# Altium integrated library TI Power Management Supervisor and Reset IC.IntLib: 819 symbols (part 15 of 30)
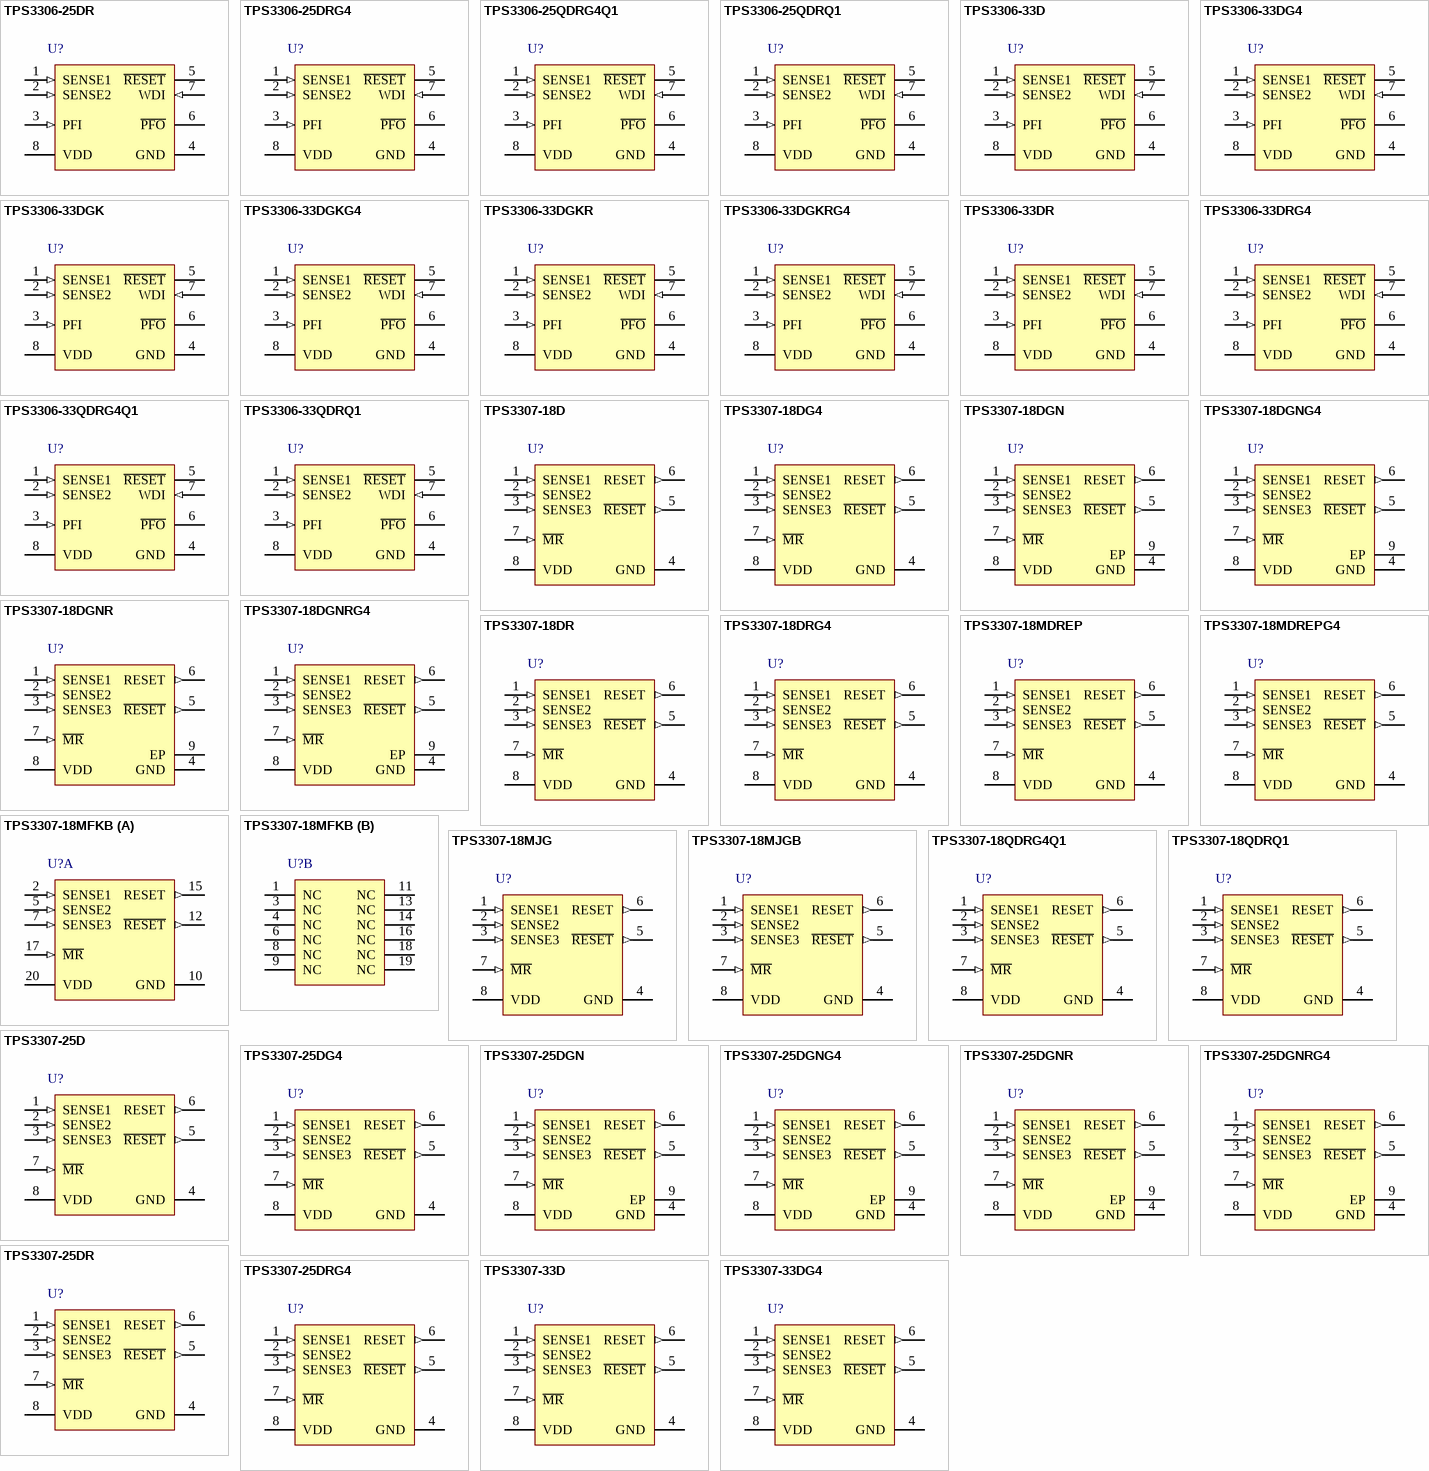
[diagram p35: symbols TPS3306-25DR to TPS3307-33DG4]

## TPS3306-33DGKR
designator U?
Dual-Processor Supervisory Circuit with Power-Fail, 2 Supply Monitored, -40 to 85 degC, 8-pin VSSOP (DGK), Green (RoHS & no Sb/Br); Manufacturer: Texas Instruments; PartNumber: TPS3306-33DGKR; # of supplies monitored: 2; Iq(Typ)(uA): 15; Output Driver Type / Reset Output: Active-low, Open-drain; Rating: Catalog; Reset Threshold Accuracy(%): 2.7; SubFamily: Supervisor and Reset IC; Threshold Voltage 1 (typ)(Typ)(V): 4.55; Threshold Voltage 2 (typ)(Typ)(V): 2.93; Time Delay(ms): 100; VCC(Max)(V): 6; Watchdog Timer WDI(sec): 0.8; DatasheetVersion: SLVS290C; PackageVersion: revE, May-2006; PackageReference: DGK8; PackageDescription: 8-Pin Thin Small Outline Package 3 x 3 mm Body ,0.65 mm Pitch; Supplier 1: Digi-Key; Supplier Part Number 1: TPS3306-33DGKR-ND; Supplier 2: Newark; Supplier Part Number 2: 77C0321; Supplier 3: Mouser; Supplier Part Number 3: 595-TPS3306-33DGKR; VCC(Min)(V): 2.7; Mounting Technology: Surface Mount; Code_JEDEC: MO-187-AA; ComponentLink1Description: Datasheet; ComponentLink1URL: http://www.ti.com/general/docs/lit/getliterature.tsp?genericPartNumber=TPS3306-33&fileType=pdf
footprint DGK8_N (TSOP, 8-Leads, Body 3x3mm, Pitch 0.65mm, IPC Medium Density)
footprint DGK8_L (TSOP, 8-Leads, Body 3x3mm, Pitch 0.65mm, IPC High Density)
footprint DGK8_M (TSOP, 8-Leads, Body 3x3mm, Pitch 0.65mm, IPC Low Density)
pins: 1 SENSE1 (in) "Sense voltage input 1", 2 SENSE2 (in) "Sense voltage input 2", 3 PFI (in) "Power-fail comparator input", 4 GND (power) "Ground", 5 ~{RESET} (oc) "Active-low reset output, open-drain", 6 ~{PFO} (oc) "Power-fail comparator output, open-drain", 7 WDI (in) "Watchdog timer input", 8 VDD (power) "Supply voltage"

## TPS3306-33DGKRG4
designator U?
Dual-Processor Supervisory Circuit with Power-Fail, 2 Supply Monitored, -40 to 85 degC, 8-pin VSSOP (DGK), Green (RoHS & no Sb/Br); Manufacturer: Texas Instruments; PartNumber: TPS3306-33DGKRG4; # of supplies monitored: 2; Iq(Typ)(uA): 15; Output Driver Type / Reset Output: Active-low, Open-drain; Rating: Catalog; Reset Threshold Accuracy(%): 2.7; SubFamily: Supervisor and Reset IC; Threshold Voltage 1 (typ)(Typ)(V): 4.55; Threshold Voltage 2 (typ)(Typ)(V): 2.93; Time Delay(ms): 100; VCC(Max)(V): 6; Watchdog Timer WDI(sec): 0.8; DatasheetVersion: SLVS290C; PackageVersion: revE, May-2006; PackageReference: DGK8; PackageDescription: 8-Pin Thin Small Outline Package 3 x 3 mm Body ,0.65 mm Pitch; Supplier 1: Digi-Key; Supplier Part Number 1: TPS3306-33DGKRG4-ND; Supplier 2: Newark; Supplier Part Number 2: 54K1626; Supplier 3: Mouser; Supplier Part Number 3: 595-TPS3306-33DGKRG4; VCC(Min)(V): 2.7; Mounting Technology: Surface Mount; Code_JEDEC: MO-187-AA; ComponentLink1Description: Datasheet; ComponentLink1URL: http://www.ti.com/general/docs/lit/getliterature.tsp?genericPartNumber=TPS3306-33&fileType=pdf
footprint DGK8_N (TSOP, 8-Leads, Body 3x3mm, Pitch 0.65mm, IPC Medium Density)
footprint DGK8_L (TSOP, 8-Leads, Body 3x3mm, Pitch 0.65mm, IPC High Density)
footprint DGK8_M (TSOP, 8-Leads, Body 3x3mm, Pitch 0.65mm, IPC Low Density)
pins: 1 SENSE1 (in) "Sense voltage input 1", 2 SENSE2 (in) "Sense voltage input 2", 3 PFI (in) "Power-fail comparator input", 4 GND (power) "Ground", 5 ~{RESET} (oc) "Active-low reset output, open-drain", 6 ~{PFO} (oc) "Power-fail comparator output, open-drain", 7 WDI (in) "Watchdog timer input", 8 VDD (power) "Supply voltage"

## TPS3306-33DR
designator U?
Dual-Processor Supervisory Circuit with Power-Fail, 2 Supply Monitored, -40 to 85 degC, 8-pin SOIC (D), Green (RoHS & no Sb/Br); Manufacturer: Texas Instruments; PartNumber: TPS3306-33DR; # of supplies monitored: 2; Iq(Typ)(uA): 15; Output Driver Type / Reset Output: Active-low, Open-drain; Rating: Catalog; Reset Threshold Accuracy(%): 2.7; SubFamily: Supervisor and Reset IC; Threshold Voltage 1 (typ)(Typ)(V): 4.55; Threshold Voltage 2 (typ)(Typ)(V): 2.93; Time Delay(ms): 100; VCC(Max)(V): 6; Watchdog Timer WDI(sec): 0.8; DatasheetVersion: SLVS290C; PackageVersion: revM, Jun-2011; PackageReference: D8; PackageDescription: 8-Pin Plastic Small Outline Integrated Circuit, 4.9 x 3.9 mm, Pitch 1.27 mm Pitch; Supplier 1: Digi-Key; Supplier Part Number 1: TPS3306-33DR-ND; Supplier 2: Newark; Supplier Part Number 2: 77C0322; Supplier 3: Mouser; Supplier Part Number 3: 595-TPS3306-33DR; VCC(Min)(V): 2.7; Mounting Technology: Surface Mount; Code_JEDEC: MS-012AA; ComponentLink1Description: Datasheet; ComponentLink1URL: http://www.ti.com/general/docs/lit/getliterature.tsp?genericPartNumber=TPS3306-33&fileType=pdf
footprint D8_N (SOIC, 8-Leads, Body 4.9x3.9mm, Pitch 1.27mm, IPC Medium Density)
footprint D8_L (SOIC, 8-Leads, Body 4.9x3.9mm, Pitch 1.27mm, IPC High Density)
footprint D8_M (SOIC, 8-Leads, Body 4.9x3.9mm, Pitch 1.27mm, IPC Low Density)
pins: 1 SENSE1 (in) "Sense voltage input 1", 2 SENSE2 (in) "Sense voltage input 2", 3 PFI (in) "Power-fail comparator input", 4 GND (power) "Ground", 5 ~{RESET} (oc) "Active-low reset output, open-drain", 6 ~{PFO} (oc) "Power-fail comparator output, open-drain", 7 WDI (in) "Watchdog timer input", 8 VDD (power) "Supply voltage"

## TPS3306-33DRG4
designator U?
Dual-Processor Supervisory Circuit with Power-Fail, 2 Supply Monitored, -40 to 85 degC, 8-pin SOIC (D), Green (RoHS & no Sb/Br); Manufacturer: Texas Instruments; PartNumber: TPS3306-33DRG4; # of supplies monitored: 2; Iq(Typ)(uA): 15; Output Driver Type / Reset Output: Active-low, Open-drain; Rating: Catalog; Reset Threshold Accuracy(%): 2.7; SubFamily: Supervisor and Reset IC; Threshold Voltage 1 (typ)(Typ)(V): 4.55; Threshold Voltage 2 (typ)(Typ)(V): 2.93; Time Delay(ms): 100; VCC(Max)(V): 6; Watchdog Timer WDI(sec): 0.8; DatasheetVersion: SLVS290C; PackageVersion: revM, Jun-2011; PackageReference: D8; PackageDescription: 8-Pin Plastic Small Outline Integrated Circuit, 4.9 x 3.9 mm, Pitch 1.27 mm Pitch; Supplier 1: Digi-Key; Supplier Part Number 1: TPS3306-33DRG4-ND; Supplier 2: Newark; Supplier Part Number 2: 33K7604; Supplier 3: Mouser; Supplier Part Number 3: 595-TPS3306-33DRG4; VCC(Min)(V): 2.7; Mounting Technology: Surface Mount; Code_JEDEC: MS-012AA; ComponentLink1Description: Datasheet; ComponentLink1URL: http://www.ti.com/general/docs/lit/getliterature.tsp?genericPartNumber=TPS3306-33&fileType=pdf
footprint D8_N (SOIC, 8-Leads, Body 4.9x3.9mm, Pitch 1.27mm, IPC Medium Density)
footprint D8_L (SOIC, 8-Leads, Body 4.9x3.9mm, Pitch 1.27mm, IPC High Density)
footprint D8_M (SOIC, 8-Leads, Body 4.9x3.9mm, Pitch 1.27mm, IPC Low Density)
pins: 1 SENSE1 (in) "Sense voltage input 1", 2 SENSE2 (in) "Sense voltage input 2", 3 PFI (in) "Power-fail comparator input", 4 GND (power) "Ground", 5 ~{RESET} (oc) "Active-low reset output, open-drain", 6 ~{PFO} (oc) "Power-fail comparator output, open-drain", 7 WDI (in) "Watchdog timer input", 8 VDD (power) "Supply voltage"

## TPS3306-33QDRG4Q1
designator U?
Automotive Catalog Dual Processor Supervisory Circuit with Power-Fail, 2 Supply Monitored, -40 to 125 degC, 8-pin SOIC (D), Green (RoHS & no Sb/Br); Manufacturer: Texas Instruments; PartNumber: TPS3306-33QDRG4Q1; # of supplies monitored: 2; Iq(Typ)(uA): 15; Output Driver Type / Reset Output: Active-low, Open-drain; Reset Threshold Accuracy(%): 2.7; SubFamily: Supervisor and Reset IC; Threshold Voltage 1 (typ)(Typ)(V): 4.55; Threshold Voltage 2 (typ)(Typ)(V): 2.93; Time Delay(ms): 100; VCC(Max)(V): 6; Watchdog Timer WDI(sec): 0.8; DatasheetVersion: SGLS241B; PackageVersion: revM, Jun-2011; PackageReference: D8; PackageDescription: 8-Pin Plastic Small Outline Integrated Circuit, 4.9 x 3.9 mm, Pitch 1.27 mm Pitch; Supplier 1: Digi-Key; Supplier Part Number 1: 296-24181-2-ND; Supplier 2: Digi-Key; Supplier Part Number 2: 296-24181-1-ND; Supplier 3: Digi-Key; Supplier Part Number 3: 296-24181-6-ND; Supplier 4: Mouser; Supplier Part Number 4: 595-TPS330633QDRG4Q1; Rating: Automotive; VCC(Min)(V): 2.7; Mounting Technology: Surface Mount; Code_JEDEC: MS-012AA; ComponentLink1Description: Datasheet; ComponentLink1URL: http://www.ti.com/general/docs/lit/getliterature.tsp?genericPartNumber=TPS3306-33-Q1&fileType=pdf
footprint D8_N (SOIC, 8-Leads, Body 4.9x3.9mm, Pitch 1.27mm, IPC Medium Density)
footprint D8_L (SOIC, 8-Leads, Body 4.9x3.9mm, Pitch 1.27mm, IPC High Density)
footprint D8_M (SOIC, 8-Leads, Body 4.9x3.9mm, Pitch 1.27mm, IPC Low Density)
pins: 1 SENSE1 (in) "Sense voltage 1", 2 SENSE2 (in) "Sense voltage 2", 3 PFI (in) "Power-fail comparator input", 4 GND (power) "Ground", 5 ~{RESET} (oc) "Active-low reset output, open drain", 6 ~{PFO} (oc) "Power-fail comparator output, open drain", 7 WDI (in) "Watchdog timer input", 8 VDD (power) "Supply voltage"

## TPS3306-33QDRQ1
designator U?
Automotive Catalog Dual Processor Supervisory Circuit with Power-Fail, 2 Supply Monitored, -40 to 125 degC, 8-pin SOIC (D), Green (RoHS & no Sb/Br); Manufacturer: Texas Instruments; PartNumber: TPS3306-33QDRQ1; # of supplies monitored: 2; Iq(Typ)(uA): 15; Output Driver Type / Reset Output: Active-low, Open-drain; Reset Threshold Accuracy(%): 2.7; SubFamily: Supervisor and Reset IC; Threshold Voltage 1 (typ)(Typ)(V): 4.55; Threshold Voltage 2 (typ)(Typ)(V): 2.93; Time Delay(ms): 100; VCC(Max)(V): 6; Watchdog Timer WDI(sec): 0.8; DatasheetVersion: SGLS241B; PackageVersion: revM, Jun-2011; PackageReference: D8; PackageDescription: 8-Pin Plastic Small Outline Integrated Circuit, 4.9 x 3.9 mm, Pitch 1.27 mm Pitch; Supplier 1: Digi-Key; Supplier Part Number 1: 296-18948-2-ND; Supplier 2: Digi-Key; Supplier Part Number 2: 296-18948-1-ND; Supplier 3: Newark; Supplier Part Number 3: 10J9758; Supplier 4: Mouser; Supplier Part Number 4: 595-TPS3306-33QDRQ1; Rating: Automotive; VCC(Min)(V): 2.7; Mounting Technology: Surface Mount; Code_JEDEC: MS-012AA; ComponentLink1Description: Datasheet; ComponentLink1URL: http://www.ti.com/general/docs/lit/getliterature.tsp?genericPartNumber=TPS3306-33-Q1&fileType=pdf
footprint D8_N (SOIC, 8-Leads, Body 4.9x3.9mm, Pitch 1.27mm, IPC Medium Density)
footprint D8_L (SOIC, 8-Leads, Body 4.9x3.9mm, Pitch 1.27mm, IPC High Density)
footprint D8_M (SOIC, 8-Leads, Body 4.9x3.9mm, Pitch 1.27mm, IPC Low Density)
pins: 1 SENSE1 (in) "Sense voltage 1", 2 SENSE2 (in) "Sense voltage 2", 3 PFI (in) "Power-fail comparator input", 4 GND (power) "Ground", 5 ~{RESET} (oc) "Active-low reset output, open drain", 6 ~{PFO} (oc) "Power-fail comparator output, open drain", 7 WDI (in) "Watchdog timer input", 8 VDD (power) "Supply voltage"

## TPS3307-18D
designator U?
Triple Processor Supervisory Circuit, 3 Supply Monitored, -40 to 85 degC, 8-pin SOIC (D), Green (RoHS & no Sb/Br); Manufacturer: Texas Instruments; PartNumber: TPS3307-18D; # of supplies monitored: 3; Iq(Typ)(uA): 15; Output Driver Type / Reset Output: Active-low, Push-pull; Rating: Catalog; Reset Threshold Accuracy(%): 2.7; SubFamily: Supervisor and Reset IC; Threshold Voltage 1 (typ)(Typ)(V): 2.93; Threshold Voltage 2 (typ)(Typ)(V): 1.68; Threshold Voltage 3 (typ)(Typ)(V): Adjustable; Time Delay(ms): 200; VCC(Max)(V): 6; VCC(Min)(V): 2; DatasheetVersion: SLVS199C; PackageVersion: revM, Jun-2011; PackageReference: D8; PackageDescription: 8-Pin Plastic Small Outline Integrated Circuit, 4.9 x 3.9 mm, Pitch 1.27 mm Pitch; Supplier 1: Digi-Key; Supplier Part Number 1: 296-2620-5-ND; Supplier 2: Farnell; Supplier Part Number 2: 5012132; Supplier 3: Newark; Supplier Part Number 3: 35K5015; Supplier 4: Mouser; Supplier Part Number 4: 595-TPS3307-18D; Mounting Technology: Surface Mount; Code_JEDEC: MS-012AA; ComponentLink1Description: Datasheet; ComponentLink1URL: http://www.ti.com/general/docs/lit/getliterature.tsp?genericPartNumber=TPS3307-18&fileType=pdf
footprint D8_N (SOIC, 8-Leads, Body 4.9x3.9mm, Pitch 1.27mm, IPC Medium Density)
footprint D8_L (SOIC, 8-Leads, Body 4.9x3.9mm, Pitch 1.27mm, IPC High Density)
footprint D8_M (SOIC, 8-Leads, Body 4.9x3.9mm, Pitch 1.27mm, IPC Low Density)
pins: 1 SENSE1 (in) "Sense voltage input 1", 2 SENSE2 (in) "Sense voltage input 2", 3 SENSE3 (in) "Sense voltage input 3", 4 GND (power) "Ground", 5 ~{RESET} (out) "Active-low reset output", 6 RESET (out) "Active-high reset output", 7 ~{MR} (in) "Manual reset", 8 VDD (power) "Supply voltage"

## TPS3307-18DG4
designator U?
Triple Processor Supervisory Circuit, 3 Supply Monitored, -40 to 85 degC, 8-pin SOIC (D), Green (RoHS & no Sb/Br); Manufacturer: Texas Instruments; PartNumber: TPS3307-18DG4; # of supplies monitored: 3; Iq(Typ)(uA): 15; Output Driver Type / Reset Output: Active-low, Push-pull; Rating: Catalog; Reset Threshold Accuracy(%): 2.7; SubFamily: Supervisor and Reset IC; Threshold Voltage 1 (typ)(Typ)(V): 2.93; Threshold Voltage 2 (typ)(Typ)(V): 1.68; Threshold Voltage 3 (typ)(Typ)(V): Adjustable; Time Delay(ms): 200; VCC(Max)(V): 6; VCC(Min)(V): 2; DatasheetVersion: SLVS199C; PackageVersion: revM, Jun-2011; PackageReference: D8; PackageDescription: 8-Pin Plastic Small Outline Integrated Circuit, 4.9 x 3.9 mm, Pitch 1.27 mm Pitch; Supplier 1: Digi-Key; Supplier Part Number 1: TPS3307-18DG4-ND; Supplier 2: Farnell; Supplier Part Number 2: 1135961; Supplier 3: Newark; Supplier Part Number 3: 93K0886; Supplier 4: Newark; Supplier Part Number 4: 61K1887; Supplier 5: Mouser; Supplier Part Number 5: 595-TPS3307-18DG4; Mounting Technology: Surface Mount; Code_JEDEC: MS-012AA; ComponentLink1Description: Datasheet; ComponentLink1URL: http://www.ti.com/general/docs/lit/getliterature.tsp?genericPartNumber=TPS3307-18&fileType=pdf
footprint D8_N (SOIC, 8-Leads, Body 4.9x3.9mm, Pitch 1.27mm, IPC Medium Density)
footprint D8_L (SOIC, 8-Leads, Body 4.9x3.9mm, Pitch 1.27mm, IPC High Density)
footprint D8_M (SOIC, 8-Leads, Body 4.9x3.9mm, Pitch 1.27mm, IPC Low Density)
pins: 1 SENSE1 (in) "Sense voltage input 1", 2 SENSE2 (in) "Sense voltage input 2", 3 SENSE3 (in) "Sense voltage input 3", 4 GND (power) "Ground", 5 ~{RESET} (out) "Active-low reset output", 6 RESET (out) "Active-high reset output", 7 ~{MR} (in) "Manual reset", 8 VDD (power) "Supply voltage"

## TPS3307-18DGN
designator U?
Triple Processor Supervisory Circuit, 3 Supply Monitored, -40 to 85 degC, 8-pin MSOP-PowerPAD (DGN), Green (RoHS & no Sb/Br); Manufacturer: Texas Instruments; PartNumber: TPS3307-18DGN; # of supplies monitored: 3; Iq(Typ)(uA): 15; Output Driver Type / Reset Output: Active-low, Push-pull; Rating: Catalog; Reset Threshold Accuracy(%): 2.7; SubFamily: Supervisor and Reset IC; Threshold Voltage 1 (typ)(Typ)(V): 2.93; Threshold Voltage 2 (typ)(Typ)(V): 1.68; Threshold Voltage 3 (typ)(Typ)(V): Adjustable; Time Delay(ms): 200; VCC(Max)(V): 6; VCC(Min)(V): 2; DatasheetVersion: SLVS199C; PackageVersion: revF, May-2011; PackageReference: DGN8-1760X1425TP; PackageDescription: 8-Pin PowerPAD Plastic Small Outline Package 3 x 3 mm Body ,0.65 mm Pitch, Exposed Pad; Supplier 1: Digi-Key; Supplier Part Number 1: 296-34602-5-ND; Supplier 2: Farnell; Supplier Part Number 2: 1100959; Supplier 3: Newark; Supplier Part Number 3: 74K3975; Supplier 4: Mouser; Supplier Part Number 4: 595-TPS3307-18DGN; Mounting Technology: Surface Mount; Code_JEDEC: MO-187-AA-T; ComponentLink1Description: Datasheet; ComponentLink1URL: http://www.ti.com/general/docs/lit/getliterature.tsp?genericPartNumber=TPS3307-18&fileType=pdf
footprint DGN8-1760X1425TP_N (TSOP, 8-Leads, Body 3x3mm, Pitch 0.65mm, Thermal Pad 1.89x1.57mm, IPC Medium Density)
footprint DGN8-1760X1425TP_L (TSOP, 8-Leads, Body 3x3mm, Pitch 0.65mm, Thermal Pad 1.89x1.57mm, IPC High Density)
footprint DGN8-1760X1425TP_M (TSOP, 8-Leads, Body 3x3mm, Pitch 0.65mm, Thermal Pad 1.89x1.57mm, IPC Low Density)
pins: 1 SENSE1 (in) "Sense voltage input 1", 2 SENSE2 (in) "Sense voltage input 2", 3 SENSE3 (in) "Sense voltage input 3", 4 GND (power) "Ground", 5 ~{RESET} (out) "Active-low reset output", 6 RESET (out) "Active-high reset output", 7 ~{MR} (in) "Manual reset", 8 VDD (power) "Supply voltage", 9 EP "Exposed Thermal Pad"

## TPS3307-18DGNG4
designator U?
Triple Processor Supervisory Circuit, 3 Supply Monitored, -40 to 85 degC, 8-pin MSOP-PowerPAD (DGN), Green (RoHS & no Sb/Br); Manufacturer: Texas Instruments; PartNumber: TPS3307-18DGNG4; # of supplies monitored: 3; Iq(Typ)(uA): 15; Output Driver Type / Reset Output: Active-low, Push-pull; Rating: Catalog; Reset Threshold Accuracy(%): 2.7; SubFamily: Supervisor and Reset IC; Threshold Voltage 1 (typ)(Typ)(V): 2.93; Threshold Voltage 2 (typ)(Typ)(V): 1.68; Threshold Voltage 3 (typ)(Typ)(V): Adjustable; Time Delay(ms): 200; VCC(Max)(V): 6; VCC(Min)(V): 2; DatasheetVersion: SLVS199C; PackageVersion: revF, May-2011; PackageReference: DGN8-1760X1425TP; PackageDescription: 8-Pin PowerPAD Plastic Small Outline Package 3 x 3 mm Body ,0.65 mm Pitch, Exposed Pad; Supplier 1: Digi-Key; Supplier Part Number 1: TPS3307-18DGNG4-ND; Supplier 2: Newark; Supplier Part Number 2: 58K6916; Supplier 3: Mouser; Supplier Part Number 3: 595-TPS3307-18DGNG4; Mounting Technology: Surface Mount; Code_JEDEC: MO-187-AA-T; ComponentLink1Description: Datasheet; ComponentLink1URL: http://www.ti.com/general/docs/lit/getliterature.tsp?genericPartNumber=TPS3307-18&fileType=pdf
footprint DGN8-1760X1425TP_N (TSOP, 8-Leads, Body 3x3mm, Pitch 0.65mm, Thermal Pad 1.89x1.57mm, IPC Medium Density)
footprint DGN8-1760X1425TP_L (TSOP, 8-Leads, Body 3x3mm, Pitch 0.65mm, Thermal Pad 1.89x1.57mm, IPC High Density)
footprint DGN8-1760X1425TP_M (TSOP, 8-Leads, Body 3x3mm, Pitch 0.65mm, Thermal Pad 1.89x1.57mm, IPC Low Density)
pins: 1 SENSE1 (in) "Sense voltage input 1", 2 SENSE2 (in) "Sense voltage input 2", 3 SENSE3 (in) "Sense voltage input 3", 4 GND (power) "Ground", 5 ~{RESET} (out) "Active-low reset output", 6 RESET (out) "Active-high reset output", 7 ~{MR} (in) "Manual reset", 8 VDD (power) "Supply voltage", 9 EP "Exposed Thermal Pad"

## TPS3307-18DGNR
designator U?
Triple Processor Supervisory Circuit, 3 Supply Monitored, -40 to 85 degC, 8-pin MSOP-PowerPAD (DGN), Green (RoHS & no Sb/Br); Manufacturer: Texas Instruments; PartNumber: TPS3307-18DGNR; # of supplies monitored: 3; Iq(Typ)(uA): 15; Output Driver Type / Reset Output: Active-low, Push-pull; Rating: Catalog; Reset Threshold Accuracy(%): 2.7; SubFamily: Supervisor and Reset IC; Threshold Voltage 1 (typ)(Typ)(V): 2.93; Threshold Voltage 2 (typ)(Typ)(V): 1.68; Threshold Voltage 3 (typ)(Typ)(V): Adjustable; Time Delay(ms): 200; VCC(Max)(V): 6; VCC(Min)(V): 2; DatasheetVersion: SLVS199C; PackageVersion: revF, May-2011; PackageReference: DGN8-1760X1425TP; PackageDescription: 8-Pin PowerPAD Plastic Small Outline Package 3 x 3 mm Body ,0.65 mm Pitch, Exposed Pad; Supplier 1: Digi-Key; Supplier Part Number 1: 296-3312-2-ND; Supplier 2: Digi-Key; Supplier Part Number 2: 296-3312-1-ND; Supplier 3: Digi-Key; Supplier Part Number 3: 296-3312-6-ND; Supplier 4: Newark; Supplier Part Number 4: 77C0324; Supplier 5: Mouser; Supplier Part Number 5: 595-TPS3307-18DGNR; Mounting Technology: Surface Mount; Code_JEDEC: MO-187-AA-T; ComponentLink1Description: Datasheet; ComponentLink1URL: http://www.ti.com/general/docs/lit/getliterature.tsp?genericPartNumber=TPS3307-18&fileType=pdf
footprint DGN8-1760X1425TP_N (TSOP, 8-Leads, Body 3x3mm, Pitch 0.65mm, Thermal Pad 1.89x1.57mm, IPC Medium Density)
footprint DGN8-1760X1425TP_L (TSOP, 8-Leads, Body 3x3mm, Pitch 0.65mm, Thermal Pad 1.89x1.57mm, IPC High Density)
footprint DGN8-1760X1425TP_M (TSOP, 8-Leads, Body 3x3mm, Pitch 0.65mm, Thermal Pad 1.89x1.57mm, IPC Low Density)
pins: 1 SENSE1 (in) "Sense voltage input 1", 2 SENSE2 (in) "Sense voltage input 2", 3 SENSE3 (in) "Sense voltage input 3", 4 GND (power) "Ground", 5 ~{RESET} (out) "Active-low reset output", 6 RESET (out) "Active-high reset output", 7 ~{MR} (in) "Manual reset", 8 VDD (power) "Supply voltage", 9 EP "Exposed Thermal Pad"

## TPS3307-18DGNRG4
designator U?
Triple Processor Supervisory Circuit, 3 Supply Monitored, -40 to 85 degC, 8-pin MSOP-PowerPAD (DGN), Green (RoHS & no Sb/Br); Manufacturer: Texas Instruments; PartNumber: TPS3307-18DGNRG4; # of supplies monitored: 3; Iq(Typ)(uA): 15; Output Driver Type / Reset Output: Active-low, Push-pull; Rating: Catalog; Reset Threshold Accuracy(%): 2.7; SubFamily: Supervisor and Reset IC; Threshold Voltage 1 (typ)(Typ)(V): 2.93; Threshold Voltage 2 (typ)(Typ)(V): 1.68; Threshold Voltage 3 (typ)(Typ)(V): Adjustable; Time Delay(ms): 200; VCC(Max)(V): 6; VCC(Min)(V): 2; DatasheetVersion: SLVS199C; PackageVersion: revF, May-2011; PackageReference: DGN8-1760X1425TP; PackageDescription: 8-Pin PowerPAD Plastic Small Outline Package 3 x 3 mm Body ,0.65 mm Pitch, Exposed Pad; Supplier 1: Digi-Key; Supplier Part Number 1: TPS3307-18DGNRG4-ND; Supplier 2: Newark; Supplier Part Number 2: 54K1627; Supplier 3: Mouser; Supplier Part Number 3: 595-TPS3307-18DGNRG4; Mounting Technology: Surface Mount; Code_JEDEC: MO-187-AA-T; ComponentLink1Description: Datasheet; ComponentLink1URL: http://www.ti.com/general/docs/lit/getliterature.tsp?genericPartNumber=TPS3307-18&fileType=pdf
footprint DGN8-1760X1425TP_N (TSOP, 8-Leads, Body 3x3mm, Pitch 0.65mm, Thermal Pad 1.89x1.57mm, IPC Medium Density)
footprint DGN8-1760X1425TP_L (TSOP, 8-Leads, Body 3x3mm, Pitch 0.65mm, Thermal Pad 1.89x1.57mm, IPC High Density)
footprint DGN8-1760X1425TP_M (TSOP, 8-Leads, Body 3x3mm, Pitch 0.65mm, Thermal Pad 1.89x1.57mm, IPC Low Density)
pins: 1 SENSE1 (in) "Sense voltage input 1", 2 SENSE2 (in) "Sense voltage input 2", 3 SENSE3 (in) "Sense voltage input 3", 4 GND (power) "Ground", 5 ~{RESET} (out) "Active-low reset output", 6 RESET (out) "Active-high reset output", 7 ~{MR} (in) "Manual reset", 8 VDD (power) "Supply voltage", 9 EP "Exposed Thermal Pad"

## TPS3307-18DR
designator U?
Triple Processor Supervisory Circuit, 3 Supply Monitored, -40 to 85 degC, 8-pin SOIC (D), Green (RoHS & no Sb/Br); Manufacturer: Texas Instruments; PartNumber: TPS3307-18DR; # of supplies monitored: 3; Iq(Typ)(uA): 15; Output Driver Type / Reset Output: Active-low, Push-pull; Rating: Catalog; Reset Threshold Accuracy(%): 2.7; SubFamily: Supervisor and Reset IC; Threshold Voltage 1 (typ)(Typ)(V): 2.93; Threshold Voltage 2 (typ)(Typ)(V): 1.68; Threshold Voltage 3 (typ)(Typ)(V): Adjustable; Time Delay(ms): 200; VCC(Max)(V): 6; VCC(Min)(V): 2; DatasheetVersion: SLVS199C; PackageVersion: revM, Jun-2011; PackageReference: D8; PackageDescription: 8-Pin Plastic Small Outline Integrated Circuit, 4.9 x 3.9 mm, Pitch 1.27 mm Pitch; Supplier 1: Digi-Key; Supplier Part Number 1: 296-26935-2-ND; Supplier 2: Digi-Key; Supplier Part Number 2: 296-26935-1-ND; Supplier 3: Digi-Key; Supplier Part Number 3: 296-26935-6-ND; Supplier 4: Newark; Supplier Part Number 4: 77C0325; Supplier 5: Mouser; Supplier Part Number 5: 595-TPS3307-18DR; Mounting Technology: Surface Mount; Code_JEDEC: MS-012AA; ComponentLink1Description: Datasheet; ComponentLink1URL: http://www.ti.com/general/docs/lit/getliterature.tsp?genericPartNumber=TPS3307-18&fileType=pdf
footprint D8_N (SOIC, 8-Leads, Body 4.9x3.9mm, Pitch 1.27mm, IPC Medium Density)
footprint D8_L (SOIC, 8-Leads, Body 4.9x3.9mm, Pitch 1.27mm, IPC High Density)
footprint D8_M (SOIC, 8-Leads, Body 4.9x3.9mm, Pitch 1.27mm, IPC Low Density)
pins: 1 SENSE1 (in) "Sense voltage input 1", 2 SENSE2 (in) "Sense voltage input 2", 3 SENSE3 (in) "Sense voltage input 3", 4 GND (power) "Ground", 5 ~{RESET} (out) "Active-low reset output", 6 RESET (out) "Active-high reset output", 7 ~{MR} (in) "Manual reset", 8 VDD (power) "Supply voltage"

## TPS3307-18DRG4
designator U?
Triple Processor Supervisory Circuit, 3 Supply Monitored, -40 to 85 degC, 8-pin SOIC (D), Green (RoHS & no Sb/Br); Manufacturer: Texas Instruments; PartNumber: TPS3307-18DRG4; # of supplies monitored: 3; Iq(Typ)(uA): 15; Output Driver Type / Reset Output: Active-low, Push-pull; Rating: Catalog; Reset Threshold Accuracy(%): 2.7; SubFamily: Supervisor and Reset IC; Threshold Voltage 1 (typ)(Typ)(V): 2.93; Threshold Voltage 2 (typ)(Typ)(V): 1.68; Threshold Voltage 3 (typ)(Typ)(V): Adjustable; Time Delay(ms): 200; VCC(Max)(V): 6; VCC(Min)(V): 2; DatasheetVersion: SLVS199C; PackageVersion: revM, Jun-2011; PackageReference: D8; PackageDescription: 8-Pin Plastic Small Outline Integrated Circuit, 4.9 x 3.9 mm, Pitch 1.27 mm Pitch; Supplier 1: Digi-Key; Supplier Part Number 1: TPS3307-18DRG4-ND; Supplier 2: Newark; Supplier Part Number 2: 24K5916; Supplier 3: Mouser; Supplier Part Number 3: 595-TPS3307-18DRG4; Mounting Technology: Surface Mount; Code_JEDEC: MS-012AA; ComponentLink1Description: Datasheet; ComponentLink1URL: http://www.ti.com/general/docs/lit/getliterature.tsp?genericPartNumber=TPS3307-18&fileType=pdf
footprint D8_N (SOIC, 8-Leads, Body 4.9x3.9mm, Pitch 1.27mm, IPC Medium Density)
footprint D8_L (SOIC, 8-Leads, Body 4.9x3.9mm, Pitch 1.27mm, IPC High Density)
footprint D8_M (SOIC, 8-Leads, Body 4.9x3.9mm, Pitch 1.27mm, IPC Low Density)
pins: 1 SENSE1 (in) "Sense voltage input 1", 2 SENSE2 (in) "Sense voltage input 2", 3 SENSE3 (in) "Sense voltage input 3", 4 GND (power) "Ground", 5 ~{RESET} (out) "Active-low reset output", 6 RESET (out) "Active-high reset output", 7 ~{MR} (in) "Manual reset", 8 VDD (power) "Supply voltage"

## TPS3307-18MDREP
designator U?
Enhanced Product Triple Processor Supervisor, 3 Supply Monitored, -55 to 125 degC, 8-pin SOIC (D), Green (RoHS & no Sb/Br); Manufacturer: Texas Instruments; PartNumber: TPS3307-18MDREP; # of supplies monitored: 3; Iq(Typ)(uA): 15; Output Driver Type / Reset Output: Active-low, Push-pull; Rating: HiRel Enhanced Product; Reset Threshold Accuracy(%): 2.7; SubFamily: Supervisor and Reset IC; Threshold Voltage 1 (typ)(Typ)(V): 2.93; Threshold Voltage 2 (typ)(Typ)(V): 1.68; Threshold Voltage 3 (typ)(Typ)(V): Adjustable; Time Delay(ms): 200; VCC(Max)(V): 6; VCC(Min)(V): 2; DatasheetVersion: SGLS140A; PackageVersion: revM, Jun-2011; PackageReference: D8; PackageDescription: 8-Pin Plastic Small Outline Integrated Circuit, 4.9 x 3.9 mm, Pitch 1.27 mm Pitch; Supplier 1: Digi-Key; Supplier Part Number 1: 296-18150-2-ND; Supplier 2: Digi-Key; Supplier Part Number 2: 296-18150-1-ND; Supplier 3: Digi-Key; Supplier Part Number 3: 296-18150-6-ND; Supplier 4: Newark; Supplier Part Number 4: 46M1093; Supplier 5: Mouser; Supplier Part Number 5: 595-TPS3307-18MDREP; Mounting Technology: Surface Mount; Code_JEDEC: MS-012AA; ComponentLink1Description: Datasheet; ComponentLink1URL: http://www.ti.com/general/docs/lit/getliterature.tsp?genericPartNumber=TPS3307-18-EP&fileType=pdf
footprint D8_N (SOIC, 8-Leads, Body 4.9x3.9mm, Pitch 1.27mm, IPC Medium Density)
footprint D8_L (SOIC, 8-Leads, Body 4.9x3.9mm, Pitch 1.27mm, IPC High Density)
footprint D8_M (SOIC, 8-Leads, Body 4.9x3.9mm, Pitch 1.27mm, IPC Low Density)
pins: 1 SENSE1 (in), 2 SENSE2 (in), 3 SENSE3 (in), 4 GND (power), 5 ~{RESET} (out), 6 RESET (out), 7 ~{MR} (in), 8 VDD (power)

## TPS3307-18MDREPG4
designator U?
Enhanced Product Triple Processor Supervisor, 3 Supply Monitored, -55 to 125 degC, 8-pin SOIC (D), Green (RoHS & no Sb/Br); Manufacturer: Texas Instruments; PartNumber: TPS3307-18MDREPG4; # of supplies monitored: 3; Iq(Typ)(uA): 15; Output Driver Type / Reset Output: Active-low, Push-pull; Rating: HiRel Enhanced Product; Reset Threshold Accuracy(%): 2.7; SubFamily: Supervisor and Reset IC; Threshold Voltage 1 (typ)(Typ)(V): 2.93; Threshold Voltage 2 (typ)(Typ)(V): 1.68; Threshold Voltage 3 (typ)(Typ)(V): Adjustable; Time Delay(ms): 200; VCC(Max)(V): 6; VCC(Min)(V): 2; DatasheetVersion: SGLS140A; PackageVersion: revM, Jun-2011; PackageReference: D8; PackageDescription: 8-Pin Plastic Small Outline Integrated Circuit, 4.9 x 3.9 mm, Pitch 1.27 mm Pitch; Supplier 1: Digi-Key; Supplier Part Number 1: TPS3307-18MDREPG4-ND; Supplier 2: Newark; Supplier Part Number 2: 50R8113; Supplier 3: Mouser; Supplier Part Number 3: 595-TPS330718MDREPG4; Mounting Technology: Surface Mount; Code_JEDEC: MS-012AA; ComponentLink1Description: Datasheet; ComponentLink1URL: http://www.ti.com/general/docs/lit/getliterature.tsp?genericPartNumber=TPS3307-18-EP&fileType=pdf
footprint D8_N (SOIC, 8-Leads, Body 4.9x3.9mm, Pitch 1.27mm, IPC Medium Density)
footprint D8_L (SOIC, 8-Leads, Body 4.9x3.9mm, Pitch 1.27mm, IPC High Density)
footprint D8_M (SOIC, 8-Leads, Body 4.9x3.9mm, Pitch 1.27mm, IPC Low Density)
pins: 1 SENSE1 (in), 2 SENSE2 (in), 3 SENSE3 (in), 4 GND (power), 5 ~{RESET} (out), 6 RESET (out), 7 ~{MR} (in), 8 VDD (power)

## TPS3307-18MFKB
designator U?
Triple Processor Supervisor, 3 Supply Monitored, -55 to 125 degC, 20-pin LCCC (FK); Manufacturer: Texas Instruments; PartNumber: TPS3307-18MFKB; # of supplies monitored: 3; Iq(Typ)(uA): 15; Output Driver Type / Reset Output: Active-low, Push-pull; Rating: Military; Reset Threshold Accuracy(%): 2.7; SubFamily: Supervisor and Reset IC; Threshold Voltage 1 (typ)(Typ)(V): 2.93; Threshold Voltage 2 (typ)(Typ)(V): 1.68; Threshold Voltage 3 (typ)(Typ)(V): Adjustable; Time Delay(ms): 200; VCC(Max)(V): 6; VCC(Min)(V): 2; DatasheetVersion: SGLS133A; PackageVersion: revD, Jan-2011; PackageReference: FK20; PackageDescription: 20-Pin Leadless Ceramic Chip Carrier, 1.27 mm Pitch; Mounting Technology: Surface Mount; Code_JEDEC: MS-004; ComponentLink1Description: Datasheet; ComponentLink1URL: http://www.ti.com/general/docs/lit/getliterature.tsp?genericPartNumber=TPS3307-18M&fileType=pdf
footprint FK20_N (Leadless Chip Carrier, 20-Leads, Body 8.9x8.9mm, Pitch 1.27mm, IPC Medium Density)
footprint FK20_L (Leadless Chip Carrier, 20-Leads, Body 8.9x8.9mm, Pitch 1.27mm, IPC High Density)
footprint FK20_M (Leadless Chip Carrier, 20-Leads, Body 8.9x8.9mm, Pitch 1.27mm, IPC Low Density)
part A pins: 2 SENSE1 (in), 5 SENSE2 (in), 7 SENSE3 (in), 10 GND (power), 12 ~{RESET} (out), 15 RESET (out), 17 ~{MR} (in), 20 VDD (power)
part B pins: 1 NC, 3 NC, 4 NC, 6 NC, 8 NC, 9 NC, 11 NC, 13 NC, 14 NC, 16 NC, 18 NC, 19 NC

## TPS3307-18MJG
designator U?
Triple Processor Supervisor, 3 Supply Monitored, -55 to 125 degC, 8-pin CDIP (JG); Manufacturer: Texas Instruments; PartNumber: TPS3307-18MJG; # of supplies monitored: 3; Iq(Typ)(uA): 15; Output Driver Type / Reset Output: Active-low, Push-pull; Rating: Military; Reset Threshold Accuracy(%): 2.7; SubFamily: Supervisor and Reset IC; Threshold Voltage 1 (typ)(Typ)(V): 2.93; Threshold Voltage 2 (typ)(Typ)(V): 1.68; Threshold Voltage 3 (typ)(Typ)(V): Adjustable; Time Delay(ms): 200; VCC(Max)(V): 6; VCC(Min)(V): 2; DatasheetVersion: SGLS133A; PackageVersion: revC, Aug-1996; PackageReference: JG8; PackageDescription: 8-Pin Ceramic Dual-In-Line Package, Row Spacing 7.62 mm, Pitch 2.54 mm; Mounting Technology: Through Hole; ComponentLink1Description: Datasheet; ComponentLink1URL: http://www.ti.com/general/docs/lit/getliterature.tsp?genericPartNumber=TPS3307-18M&fileType=pdf
footprint JG8 (DIP, 8-Leads, Row Spacing 7.62mm, Pitch 2.54mm, Body 9.6x6.7mm)
pins: 1 SENSE1 (in), 2 SENSE2 (in), 3 SENSE3 (in), 4 GND (power), 5 ~{RESET} (out), 6 RESET (out), 7 ~{MR} (in), 8 VDD (power)

## TPS3307-18MJGB
designator U?
Triple Processor Supervisor, 3 Supply Monitored, -55 to 125 degC, 8-pin CDIP (JG); Manufacturer: Texas Instruments; PartNumber: TPS3307-18MJGB; # of supplies monitored: 3; Iq(Typ)(uA): 15; Output Driver Type / Reset Output: Active-low, Push-pull; Rating: Military; Reset Threshold Accuracy(%): 2.7; SubFamily: Supervisor and Reset IC; Threshold Voltage 1 (typ)(Typ)(V): 2.93; Threshold Voltage 2 (typ)(Typ)(V): 1.68; Threshold Voltage 3 (typ)(Typ)(V): Adjustable; Time Delay(ms): 200; VCC(Max)(V): 6; VCC(Min)(V): 2; DatasheetVersion: SGLS133A; PackageVersion: revC, Aug-1996; PackageReference: JG8; PackageDescription: 8-Pin Ceramic Dual-In-Line Package, Row Spacing 7.62 mm, Pitch 2.54 mm; Mounting Technology: Through Hole; ComponentLink1Description: Datasheet; ComponentLink1URL: http://www.ti.com/general/docs/lit/getliterature.tsp?genericPartNumber=TPS3307-18M&fileType=pdf
footprint JG8 (DIP, 8-Leads, Row Spacing 7.62mm, Pitch 2.54mm, Body 9.6x6.7mm)
pins: 1 SENSE1 (in), 2 SENSE2 (in), 3 SENSE3 (in), 4 GND (power), 5 ~{RESET} (out), 6 RESET (out), 7 ~{MR} (in), 8 VDD (power)

## TPS3307-18QDRG4Q1
designator U?
Automotive Catalog Triple Processor Supervisor, 3 Supply Monitored, -40 to 125 degC, 8-pin SOIC (D), Green (RoHS & no Sb/Br); Manufacturer: Texas Instruments; PartNumber: TPS3307-18QDRG4Q1; # of supplies monitored: 3; Iq(Typ)(uA): 15; Output Driver Type / Reset Output: Active-low, Push-pull; Reset Threshold Accuracy(%): 2.7; SubFamily: Supervisor and Reset IC; Threshold Voltage 1 (typ)(Typ)(V): 2.93; Threshold Voltage 2 (typ)(Typ)(V): 1.68; Threshold Voltage 3 (typ)(Typ)(V): Adjustable; Time Delay(ms): 200; VCC(Max)(V): 6; VCC(Min)(V): 2; DatasheetVersion: SGLS136A; PackageVersion: revM, Jun-2011; PackageReference: D8; PackageDescription: 8-Pin Plastic Small Outline Integrated Circuit, 4.9 x 3.9 mm, Pitch 1.27 mm Pitch; Supplier 1: Digi-Key; Supplier Part Number 1: 296-29422-2-ND; Supplier 2: Digi-Key; Supplier Part Number 2: 296-29422-1-ND; Supplier 3: Digi-Key; Supplier Part Number 3: 296-29422-6-ND; Supplier 4: Mouser; Supplier Part Number 4: 595-TPS330718QDRG4Q1; Rating: Automotive; Mounting Technology: Surface Mount; Code_JEDEC: MS-012AA; ComponentLink1Description: Datasheet; ComponentLink1URL: http://www.ti.com/general/docs/lit/getliterature.tsp?genericPartNumber=TPS3307-18-Q1&fileType=pdf
footprint D8_N (SOIC, 8-Leads, Body 4.9x3.9mm, Pitch 1.27mm, IPC Medium Density)
footprint D8_L (SOIC, 8-Leads, Body 4.9x3.9mm, Pitch 1.27mm, IPC High Density)
footprint D8_M (SOIC, 8-Leads, Body 4.9x3.9mm, Pitch 1.27mm, IPC Low Density)
pins: 1 SENSE1 (in), 2 SENSE2 (in), 3 SENSE3 (in), 4 GND (power), 5 ~{RESET} (out), 6 RESET (out), 7 ~{MR} (in), 8 VDD (power)

## TPS3307-18QDRQ1
designator U?
Automotive Catalog Triple Processor Supervisor, 3 Supply Monitored, -40 to 125 degC, 8-pin SOIC (D), Green (RoHS & no Sb/Br); Manufacturer: Texas Instruments; PartNumber: TPS3307-18QDRQ1; # of supplies monitored: 3; Iq(Typ)(uA): 15; Output Driver Type / Reset Output: Active-low, Push-pull; Reset Threshold Accuracy(%): 2.7; SubFamily: Supervisor and Reset IC; Threshold Voltage 1 (typ)(Typ)(V): 2.93; Threshold Voltage 2 (typ)(Typ)(V): 1.68; Threshold Voltage 3 (typ)(Typ)(V): Adjustable; Time Delay(ms): 200; VCC(Max)(V): 6; VCC(Min)(V): 2; DatasheetVersion: SGLS136A; PackageVersion: revM, Jun-2011; PackageReference: D8; PackageDescription: 8-Pin Plastic Small Outline Integrated Circuit, 4.9 x 3.9 mm, Pitch 1.27 mm Pitch; Supplier 1: Digi-Key; Supplier Part Number 1: 296-15641-2-ND; Supplier 2: Digi-Key; Supplier Part Number 2: 296-15641-1-ND; Supplier 3: Digi-Key; Supplier Part Number 3: 296-15641-6-ND; Supplier 4: Newark; Supplier Part Number 4: 67H1775; Supplier 5: Mouser; Supplier Part Number 5: 595-TPS3307-18QDRQ1; Rating: Automotive; Mounting Technology: Surface Mount; Code_JEDEC: MS-012AA; ComponentLink1Description: Datasheet; ComponentLink1URL: http://www.ti.com/general/docs/lit/getliterature.tsp?genericPartNumber=TPS3307-18-Q1&fileType=pdf
footprint D8_N (SOIC, 8-Leads, Body 4.9x3.9mm, Pitch 1.27mm, IPC Medium Density)
footprint D8_L (SOIC, 8-Leads, Body 4.9x3.9mm, Pitch 1.27mm, IPC High Density)
footprint D8_M (SOIC, 8-Leads, Body 4.9x3.9mm, Pitch 1.27mm, IPC Low Density)
pins: 1 SENSE1 (in), 2 SENSE2 (in), 3 SENSE3 (in), 4 GND (power), 5 ~{RESET} (out), 6 RESET (out), 7 ~{MR} (in), 8 VDD (power)

## TPS3307-25D
designator U?
Triple Processor Supervisory Circuit, 3 Supply Monitored, -40 to 85 degC, 8-pin SOIC (D), Green (RoHS & no Sb/Br); Manufacturer: Texas Instruments; PartNumber: TPS3307-25D; # of supplies monitored: 3; Iq(Typ)(uA): 15; Output Driver Type / Reset Output: Active-low, Push-pull; Rating: Military; Reset Threshold Accuracy(%): 2.7; SubFamily: Supervisor and Reset IC; Threshold Voltage 1 (typ)(Typ)(V): 2.93; Threshold Voltage 2 (typ)(Typ)(V): 2.25; Threshold Voltage 3 (typ)(Typ)(V): Adjustable; Time Delay(ms): 200; VCC(Max)(V): 6; VCC(Min)(V): 2; DatasheetVersion: SLVS199C; PackageVersion: revM, Jun-2011; PackageReference: D8; PackageDescription: 8-Pin Plastic Small Outline Integrated Circuit, 4.9 x 3.9 mm, Pitch 1.27 mm Pitch; Supplier 1: Digi-Key; Supplier Part Number 1: 296-2621-5-ND; Supplier 2: Farnell; Supplier Part Number 2: 8457093; Supplier 3: Newark; Supplier Part Number 3: 35K1318; Supplier 4: Mouser; Supplier Part Number 4: 595-TPS3307-25D; Mounting Technology: Surface Mount; Code_JEDEC: MS-012AA; ComponentLink1Description: Datasheet; ComponentLink1URL: http://www.ti.com/general/docs/lit/getliterature.tsp?genericPartNumber=TPS3307-25&fileType=pdf
footprint D8_N (SOIC, 8-Leads, Body 4.9x3.9mm, Pitch 1.27mm, IPC Medium Density)
footprint D8_L (SOIC, 8-Leads, Body 4.9x3.9mm, Pitch 1.27mm, IPC High Density)
footprint D8_M (SOIC, 8-Leads, Body 4.9x3.9mm, Pitch 1.27mm, IPC Low Density)
pins: 1 SENSE1 (in) "Sense voltage input 1", 2 SENSE2 (in) "Sense voltage input 2", 3 SENSE3 (in) "Sense voltage input 3", 4 GND (power) "Ground", 5 ~{RESET} (out) "Active-low reset output", 6 RESET (out) "Active-high reset output", 7 ~{MR} (in) "Manual reset", 8 VDD (power) "Supply voltage"

## TPS3307-25DG4
designator U?
Triple Processor Supervisory Circuit, 3 Supply Monitored, -40 to 85 degC, 8-pin SOIC (D), Green (RoHS & no Sb/Br); Manufacturer: Texas Instruments; PartNumber: TPS3307-25DG4; # of supplies monitored: 3; Iq(Typ)(uA): 15; Output Driver Type / Reset Output: Active-low, Push-pull; Rating: Military; Reset Threshold Accuracy(%): 2.7; SubFamily: Supervisor and Reset IC; Threshold Voltage 1 (typ)(Typ)(V): 2.93; Threshold Voltage 2 (typ)(Typ)(V): 2.25; Threshold Voltage 3 (typ)(Typ)(V): Adjustable; Time Delay(ms): 200; VCC(Max)(V): 6; VCC(Min)(V): 2; DatasheetVersion: SLVS199C; PackageVersion: revM, Jun-2011; PackageReference: D8; PackageDescription: 8-Pin Plastic Small Outline Integrated Circuit, 4.9 x 3.9 mm, Pitch 1.27 mm Pitch; Supplier 1: Digi-Key; Supplier Part Number 1: TPS3307-25DG4-ND; Supplier 2: Newark; Supplier Part Number 2: 54K1628; Supplier 3: Mouser; Supplier Part Number 3: 595-TPS3307-25DG4; Mounting Technology: Surface Mount; Code_JEDEC: MS-012AA; ComponentLink1Description: Datasheet; ComponentLink1URL: http://www.ti.com/general/docs/lit/getliterature.tsp?genericPartNumber=TPS3307-25&fileType=pdf
footprint D8_N (SOIC, 8-Leads, Body 4.9x3.9mm, Pitch 1.27mm, IPC Medium Density)
footprint D8_L (SOIC, 8-Leads, Body 4.9x3.9mm, Pitch 1.27mm, IPC High Density)
footprint D8_M (SOIC, 8-Leads, Body 4.9x3.9mm, Pitch 1.27mm, IPC Low Density)
pins: 1 SENSE1 (in) "Sense voltage input 1", 2 SENSE2 (in) "Sense voltage input 2", 3 SENSE3 (in) "Sense voltage input 3", 4 GND (power) "Ground", 5 ~{RESET} (out) "Active-low reset output", 6 RESET (out) "Active-high reset output", 7 ~{MR} (in) "Manual reset", 8 VDD (power) "Supply voltage"

## TPS3307-25DGN
designator U?
Triple Processor Supervisory Circuit, 3 Supply Monitored, -40 to 85 degC, 8-pin MSOP-PowerPAD (DGN), Green (RoHS & no Sb/Br); Manufacturer: Texas Instruments; PartNumber: TPS3307-25DGN; # of supplies monitored: 3; Iq(Typ)(uA): 15; Output Driver Type / Reset Output: Active-low, Push-pull; Rating: Military; Reset Threshold Accuracy(%): 2.7; SubFamily: Supervisor and Reset IC; Threshold Voltage 1 (typ)(Typ)(V): 2.93; Threshold Voltage 2 (typ)(Typ)(V): 2.25; Threshold Voltage 3 (typ)(Typ)(V): Adjustable; Time Delay(ms): 200; VCC(Max)(V): 6; VCC(Min)(V): 2; DatasheetVersion: SLVS199C; PackageVersion: revF, May-2011; PackageReference: DGN8-1760X1425TP; PackageDescription: 8-Pin PowerPAD Plastic Small Outline Package 3 x 3 mm Body ,0.65 mm Pitch, Exposed Pad; Supplier 1: Digi-Key; Supplier Part Number 1: 296-26936-5-ND; Supplier 2: Newark; Supplier Part Number 2: 77C0327; Supplier 3: Mouser; Supplier Part Number 3: 595-TPS3307-25DGN; Mounting Technology: Surface Mount; Code_JEDEC: MO-187-AA-T; ComponentLink1Description: Datasheet; ComponentLink1URL: http://www.ti.com/general/docs/lit/getliterature.tsp?genericPartNumber=TPS3307-25&fileType=pdf
footprint DGN8-1760X1425TP_N (TSOP, 8-Leads, Body 3x3mm, Pitch 0.65mm, Thermal Pad 1.89x1.57mm, IPC Medium Density)
footprint DGN8-1760X1425TP_L (TSOP, 8-Leads, Body 3x3mm, Pitch 0.65mm, Thermal Pad 1.89x1.57mm, IPC High Density)
footprint DGN8-1760X1425TP_M (TSOP, 8-Leads, Body 3x3mm, Pitch 0.65mm, Thermal Pad 1.89x1.57mm, IPC Low Density)
pins: 1 SENSE1 (in) "Sense voltage input 1", 2 SENSE2 (in) "Sense voltage input 2", 3 SENSE3 (in) "Sense voltage input 3", 4 GND (power) "Ground", 5 ~{RESET} (out) "Active-low reset output", 6 RESET (out) "Active-high reset output", 7 ~{MR} (in) "Manual reset", 8 VDD (power) "Supply voltage", 9 EP "Exposed Thermal Pad"

## TPS3307-25DGNG4
designator U?
Triple Processor Supervisory Circuit, 3 Supply Monitored, -40 to 85 degC, 8-pin MSOP-PowerPAD (DGN), Green (RoHS & no Sb/Br); Manufacturer: Texas Instruments; PartNumber: TPS3307-25DGNG4; # of supplies monitored: 3; Iq(Typ)(uA): 15; Output Driver Type / Reset Output: Active-low, Push-pull; Rating: Military; Reset Threshold Accuracy(%): 2.7; SubFamily: Supervisor and Reset IC; Threshold Voltage 1 (typ)(Typ)(V): 2.93; Threshold Voltage 2 (typ)(Typ)(V): 2.25; Threshold Voltage 3 (typ)(Typ)(V): Adjustable; Time Delay(ms): 200; VCC(Max)(V): 6; VCC(Min)(V): 2; DatasheetVersion: SLVS199C; PackageVersion: revF, May-2011; PackageReference: DGN8-1760X1425TP; PackageDescription: 8-Pin PowerPAD Plastic Small Outline Package 3 x 3 mm Body ,0.65 mm Pitch, Exposed Pad; Supplier 1: Digi-Key; Supplier Part Number 1: TPS3307-25DGNG4-ND; Supplier 2: Farnell; Supplier Part Number 2: 1214434; Supplier 3: Newark; Supplier Part Number 3: 58K6917; Supplier 4: Mouser; Supplier Part Number 4: 595-TPS3307-25DGNG4; Mounting Technology: Surface Mount; Code_JEDEC: MO-187-AA-T; ComponentLink1Description: Datasheet; ComponentLink1URL: http://www.ti.com/general/docs/lit/getliterature.tsp?genericPartNumber=TPS3307-25&fileType=pdf
footprint DGN8-1760X1425TP_N (TSOP, 8-Leads, Body 3x3mm, Pitch 0.65mm, Thermal Pad 1.89x1.57mm, IPC Medium Density)
footprint DGN8-1760X1425TP_L (TSOP, 8-Leads, Body 3x3mm, Pitch 0.65mm, Thermal Pad 1.89x1.57mm, IPC High Density)
footprint DGN8-1760X1425TP_M (TSOP, 8-Leads, Body 3x3mm, Pitch 0.65mm, Thermal Pad 1.89x1.57mm, IPC Low Density)
pins: 1 SENSE1 (in) "Sense voltage input 1", 2 SENSE2 (in) "Sense voltage input 2", 3 SENSE3 (in) "Sense voltage input 3", 4 GND (power) "Ground", 5 ~{RESET} (out) "Active-low reset output", 6 RESET (out) "Active-high reset output", 7 ~{MR} (in) "Manual reset", 8 VDD (power) "Supply voltage", 9 EP "Exposed Thermal Pad"

## TPS3307-25DGNR
designator U?
Triple Processor Supervisory Circuit, 3 Supply Monitored, -40 to 85 degC, 8-pin MSOP-PowerPAD (DGN), Green (RoHS & no Sb/Br); Manufacturer: Texas Instruments; PartNumber: TPS3307-25DGNR; # of supplies monitored: 3; Iq(Typ)(uA): 15; Output Driver Type / Reset Output: Active-low, Push-pull; Rating: Military; Reset Threshold Accuracy(%): 2.7; SubFamily: Supervisor and Reset IC; Threshold Voltage 1 (typ)(Typ)(V): 2.93; Threshold Voltage 2 (typ)(Typ)(V): 2.25; Threshold Voltage 3 (typ)(Typ)(V): Adjustable; Time Delay(ms): 200; VCC(Max)(V): 6; VCC(Min)(V): 2; DatasheetVersion: SLVS199C; PackageVersion: revF, May-2011; PackageReference: DGN8-1760X1425TP; PackageDescription: 8-Pin PowerPAD Plastic Small Outline Package 3 x 3 mm Body ,0.65 mm Pitch, Exposed Pad; Supplier 1: Digi-Key; Supplier Part Number 1: 296-3313-2-ND; Supplier 2: Digi-Key; Supplier Part Number 2: 296-3313-1-ND; Supplier 3: Digi-Key; Supplier Part Number 3: 296-3313-6-ND; Supplier 4: Newark; Supplier Part Number 4: 77C0328; Supplier 5: Mouser; Supplier Part Number 5: 595-TPS3307-25DGNR; Mounting Technology: Surface Mount; Code_JEDEC: MO-187-AA-T; ComponentLink1Description: Datasheet; ComponentLink1URL: http://www.ti.com/general/docs/lit/getliterature.tsp?genericPartNumber=TPS3307-25&fileType=pdf
footprint DGN8-1760X1425TP_N (TSOP, 8-Leads, Body 3x3mm, Pitch 0.65mm, Thermal Pad 1.89x1.57mm, IPC Medium Density)
footprint DGN8-1760X1425TP_L (TSOP, 8-Leads, Body 3x3mm, Pitch 0.65mm, Thermal Pad 1.89x1.57mm, IPC High Density)
footprint DGN8-1760X1425TP_M (TSOP, 8-Leads, Body 3x3mm, Pitch 0.65mm, Thermal Pad 1.89x1.57mm, IPC Low Density)
pins: 1 SENSE1 (in) "Sense voltage input 1", 2 SENSE2 (in) "Sense voltage input 2", 3 SENSE3 (in) "Sense voltage input 3", 4 GND (power) "Ground", 5 ~{RESET} (out) "Active-low reset output", 6 RESET (out) "Active-high reset output", 7 ~{MR} (in) "Manual reset", 8 VDD (power) "Supply voltage", 9 EP "Exposed Thermal Pad"

## TPS3307-25DGNRG4
designator U?
Triple Processor Supervisory Circuit, 3 Supply Monitored, -40 to 85 degC, 8-pin MSOP-PowerPAD (DGN), Green (RoHS & no Sb/Br); Manufacturer: Texas Instruments; PartNumber: TPS3307-25DGNRG4; # of supplies monitored: 3; Iq(Typ)(uA): 15; Output Driver Type / Reset Output: Active-low, Push-pull; Rating: Military; Reset Threshold Accuracy(%): 2.7; SubFamily: Supervisor and Reset IC; Threshold Voltage 1 (typ)(Typ)(V): 2.93; Threshold Voltage 2 (typ)(Typ)(V): 2.25; Threshold Voltage 3 (typ)(Typ)(V): Adjustable; Time Delay(ms): 200; VCC(Max)(V): 6; VCC(Min)(V): 2; DatasheetVersion: SLVS199C; PackageVersion: revF, May-2011; PackageReference: DGN8-1760X1425TP; PackageDescription: 8-Pin PowerPAD Plastic Small Outline Package 3 x 3 mm Body ,0.65 mm Pitch, Exposed Pad; Supplier 1: Digi-Key; Supplier Part Number 1: TPS3307-25DGNRG4-ND; Supplier 2: Newark; Supplier Part Number 2: 71J8099; Supplier 3: Mouser; Supplier Part Number 3: 595-TPS3307-25DGNRG4; Mounting Technology: Surface Mount; Code_JEDEC: MO-187-AA-T; ComponentLink1Description: Datasheet; ComponentLink1URL: http://www.ti.com/general/docs/lit/getliterature.tsp?genericPartNumber=TPS3307-25&fileType=pdf
footprint DGN8-1760X1425TP_N (TSOP, 8-Leads, Body 3x3mm, Pitch 0.65mm, Thermal Pad 1.89x1.57mm, IPC Medium Density)
footprint DGN8-1760X1425TP_L (TSOP, 8-Leads, Body 3x3mm, Pitch 0.65mm, Thermal Pad 1.89x1.57mm, IPC High Density)
footprint DGN8-1760X1425TP_M (TSOP, 8-Leads, Body 3x3mm, Pitch 0.65mm, Thermal Pad 1.89x1.57mm, IPC Low Density)
pins: 1 SENSE1 (in) "Sense voltage input 1", 2 SENSE2 (in) "Sense voltage input 2", 3 SENSE3 (in) "Sense voltage input 3", 4 GND (power) "Ground", 5 ~{RESET} (out) "Active-low reset output", 6 RESET (out) "Active-high reset output", 7 ~{MR} (in) "Manual reset", 8 VDD (power) "Supply voltage", 9 EP "Exposed Thermal Pad"

## TPS3307-25DR
designator U?
Triple Processor Supervisory Circuit, 3 Supply Monitored, -40 to 85 degC, 8-pin SOIC (D), Green (RoHS & no Sb/Br); Manufacturer: Texas Instruments; PartNumber: TPS3307-25DR; # of supplies monitored: 3; Iq(Typ)(uA): 15; Output Driver Type / Reset Output: Active-low, Push-pull; Rating: Military; Reset Threshold Accuracy(%): 2.7; SubFamily: Supervisor and Reset IC; Threshold Voltage 1 (typ)(Typ)(V): 2.93; Threshold Voltage 2 (typ)(Typ)(V): 2.25; Threshold Voltage 3 (typ)(Typ)(V): Adjustable; Time Delay(ms): 200; VCC(Max)(V): 6; VCC(Min)(V): 2; DatasheetVersion: SLVS199C; PackageVersion: revM, Jun-2011; PackageReference: D8; PackageDescription: 8-Pin Plastic Small Outline Integrated Circuit, 4.9 x 3.9 mm, Pitch 1.27 mm Pitch; Supplier 1: Digi-Key; Supplier Part Number 1: 296-26937-2-ND; Supplier 2: Digi-Key; Supplier Part Number 2: 296-26937-1-ND; Supplier 3: Digi-Key; Supplier Part Number 3: 296-26937-6-ND; Supplier 4: Newark; Supplier Part Number 4: 77C0329; Supplier 5: Mouser; Supplier Part Number 5: 595-TPS3307-25DR; Mounting Technology: Surface Mount; Code_JEDEC: MS-012AA; ComponentLink1Description: Datasheet; ComponentLink1URL: http://www.ti.com/general/docs/lit/getliterature.tsp?genericPartNumber=TPS3307-25&fileType=pdf
footprint D8_N (SOIC, 8-Leads, Body 4.9x3.9mm, Pitch 1.27mm, IPC Medium Density)
footprint D8_L (SOIC, 8-Leads, Body 4.9x3.9mm, Pitch 1.27mm, IPC High Density)
footprint D8_M (SOIC, 8-Leads, Body 4.9x3.9mm, Pitch 1.27mm, IPC Low Density)
pins: 1 SENSE1 (in) "Sense voltage input 1", 2 SENSE2 (in) "Sense voltage input 2", 3 SENSE3 (in) "Sense voltage input 3", 4 GND (power) "Ground", 5 ~{RESET} (out) "Active-low reset output", 6 RESET (out) "Active-high reset output", 7 ~{MR} (in) "Manual reset", 8 VDD (power) "Supply voltage"

## TPS3307-25DRG4
designator U?
Triple Processor Supervisory Circuit, 3 Supply Monitored, -40 to 85 degC, 8-pin SOIC (D), Green (RoHS & no Sb/Br); Manufacturer: Texas Instruments; PartNumber: TPS3307-25DRG4; # of supplies monitored: 3; Iq(Typ)(uA): 15; Output Driver Type / Reset Output: Active-low, Push-pull; Rating: Military; Reset Threshold Accuracy(%): 2.7; SubFamily: Supervisor and Reset IC; Threshold Voltage 1 (typ)(Typ)(V): 2.93; Threshold Voltage 2 (typ)(Typ)(V): 2.25; Threshold Voltage 3 (typ)(Typ)(V): Adjustable; Time Delay(ms): 200; VCC(Max)(V): 6; VCC(Min)(V): 2; DatasheetVersion: SLVS199C; PackageVersion: revM, Jun-2011; PackageReference: D8; PackageDescription: 8-Pin Plastic Small Outline Integrated Circuit, 4.9 x 3.9 mm, Pitch 1.27 mm Pitch; Supplier 1: Digi-Key; Supplier Part Number 1: TPS3307-25DRG4-ND; Supplier 2: Newark; Supplier Part Number 2: 24K5917; Supplier 3: Mouser; Supplier Part Number 3: 595-TPS3307-25DRG4; Mounting Technology: Surface Mount; Code_JEDEC: MS-012AA; ComponentLink1Description: Datasheet; ComponentLink1URL: http://www.ti.com/general/docs/lit/getliterature.tsp?genericPartNumber=TPS3307-25&fileType=pdf
footprint D8_N (SOIC, 8-Leads, Body 4.9x3.9mm, Pitch 1.27mm, IPC Medium Density)
footprint D8_L (SOIC, 8-Leads, Body 4.9x3.9mm, Pitch 1.27mm, IPC High Density)
footprint D8_M (SOIC, 8-Leads, Body 4.9x3.9mm, Pitch 1.27mm, IPC Low Density)
pins: 1 SENSE1 (in) "Sense voltage input 1", 2 SENSE2 (in) "Sense voltage input 2", 3 SENSE3 (in) "Sense voltage input 3", 4 GND (power) "Ground", 5 ~{RESET} (out) "Active-low reset output", 6 RESET (out) "Active-high reset output", 7 ~{MR} (in) "Manual reset", 8 VDD (power) "Supply voltage"